# EAGLE library part N25Q*A13E? (library ic-Micron)
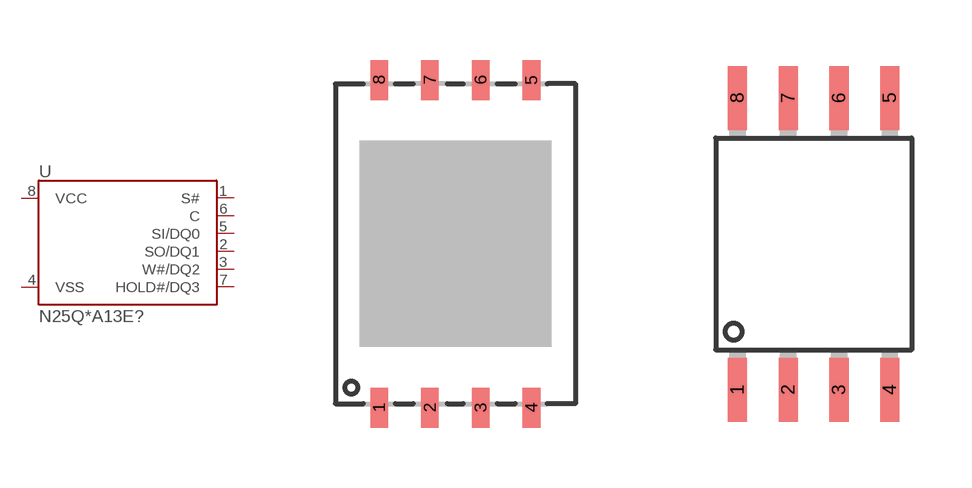
[diagram p0: symbol with the pads of DFN8-1.27; footprints DFN8-1.27, SOP8W]

Designator prefix U

## N25Q128A13EF8, N25Q512A13EF8  [DFN8-1.27]
1  S#
2  SO/DQ1
3  W#/DQ2
4  VSS
5  SI/DQ0
6  C
7  HOLD#/DQ3
8  VCC

## N25Q128A13ESE, N25Q512A13ESE  [SOP8W]
Pads as for DFN8-1.27

## Footprint DFN8-1.27 (pad centres in mm)
smd 0.44 x 1: 1 -1.905,-4.1; 2 -0.635,-4.1; 3 0.635,-4.1; 4 1.905,-4.1; 5 1.905,4.1; 6 0.635,4.1; 7 -0.635,4.1; 8 -1.905,4.1

## Footprint SOP8W (pad centres in mm)
smd 0.48 x 1.6: 1 -1.905,-3.65; 2 -0.635,-3.65; 3 0.635,-3.65; 4 1.905,-3.65; 5 1.905,3.65; 6 0.635,3.65; 7 -0.635,3.65; 8 -1.905,3.65